# EAGLE library part ZX80-B-5P (library KVB-connectors)
USB - micro B USB 2.0 Receptacle Connector 5 Position Surface Mount Through Hole
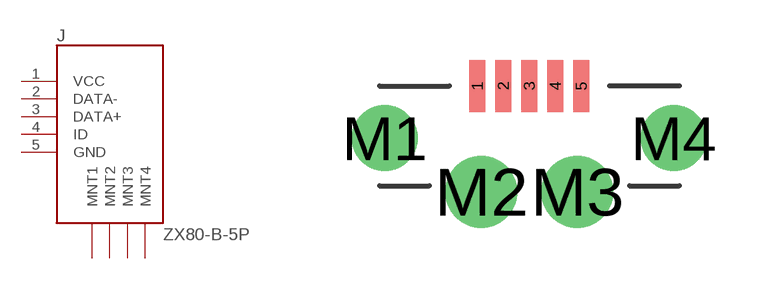
[diagram p22: symbol with the pads of ZX80-B-5P; footprint ZX80-B-5P]

Designator prefix J

## ZX80-B-5P (MAN-PART_NUM: ZX80-B-5P(30); MANUFACTURER: Hirose)  [ZX80-B-5P]
1  VCC
2  DATA-
3  DATA+
4  ID
5  GND
M1  MNT1
M2  MNT2
M3  MNT3
M4  MNT4

## Footprint ZX80-B-5P (pad centres in mm)
smd 0.4 x 1.3: 1 -1.3,0; 2 -0.65,0; 3 0,0; 4 0.65,0; 5 1.3,0
drill 1.1: M1 -3.61,-1.31; M4 3.61,-1.31
drill 1.2: M2 -1.2,-2.65; M3 1.2,-2.65